# EAGLE library part WST_GPS (library capstone)
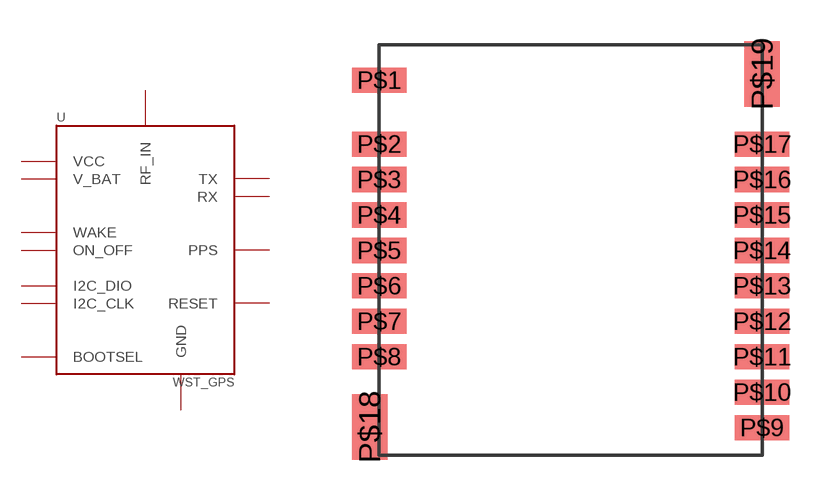
[diagram p3: symbol with the pads of WST_GPS; footprint WST_GPS]

Designator prefix U

## WST_GPS  [WST_GPS]
P$1  GND
P$2  RF_IN
P$3  GND
P$4  RESET
P$5  VCC
P$6  V_BAT
P$9  BOOTSEL
P$10  TX
P$11  RX
P$12  I2C_DIO
P$13  I2C_CLK
P$14  PPS
P$15  ON_OFF
P$16  WAKE
P$17  GND
P$18  GND
P$19  GND

## Footprint WST_GPS (pad centres in mm)
smd 2 x 0.92: P$1 0,0; P$2 0,-2.335; P$3 0,-3.63; P$4 0,-4.925; P$5 0,-6.22; P$6 0,-7.515; P$7 0,-8.81; P$8 0,-10.105; P$9 14,-12.695; P$10 14,-11.4; P$11 14,-10.105; P$12 14,-8.81; P$13 14,-7.515; P$14 14,-6.22; P$15 14,-4.925; P$16 14,-3.63; P$17 14,-2.335
smd 1.3 x 2.4: P$18 -0.35,-12.67; P$19 14,0.23